# EAGLE library part TEXAS_TLV2333 (library airu-board)
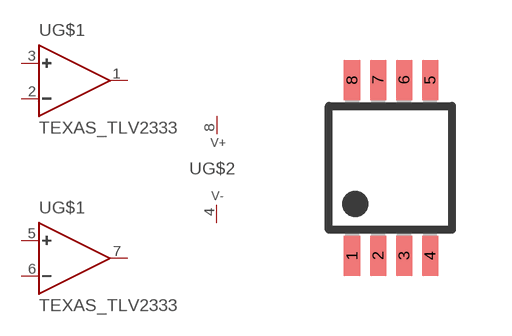
[diagram p11: symbol with the pads of TEXAS_DGK_S-PDSO-G8; footprint TEXAS_DGK_S-PDSO-G8]

Designator prefix -; gates G$1=TEXAS_TLV2333 G$2=TEXAS_TLV2333P

## TEXAS_TLV2333  [TEXAS_DGK_S-PDSO-G8]
1  G$1:OUT  out
2  G$1:-  in
3  G$1:+  in
4  G$2:V-  pwr
5  G$1:+1  in
6  G$1:-1  in
7  G$1:OUT1  out
8  G$2:V+  pwr

## Footprint TEXAS_DGK_S-PDSO-G8 (pad centres in mm)
DGK (S-PDSO-G8) Source: http://focus.ti.com/lit/ds/scas794/scas794.pdf
smd 0.4 x 1: 1 -0.975,-2.2; 2 -0.325,-2.2; 3 0.325,-2.2; 4 0.975,-2.2; 5 0.975,2.2; 6 0.325,2.2; 7 -0.325,2.2; 8 -0.975,2.2